# EAGLE library part NRF24L01 (library 00_custom)
2.4GHz Radio Module
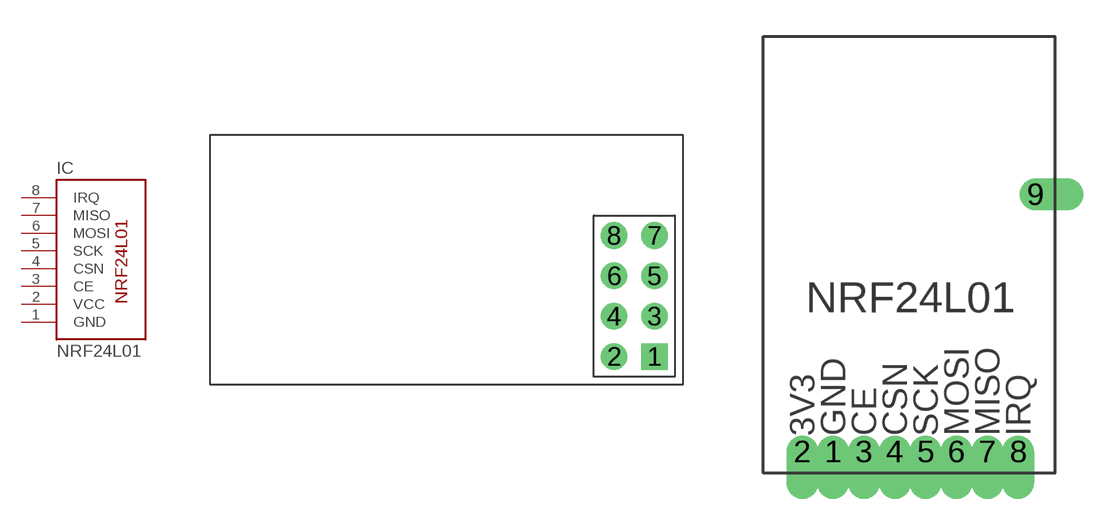
[diagram p8: symbol with the pads of NRF24L01; footprints NRF24L01, NRF24L01_SMD]

Designator prefix IC

## NRF24L01  [NRF24L01]
1  GND
2  VCC
3  CE
4  CSN
5  SCK
6  MOSI
7  MISO
8  IRQ

## NRF24L01SMD  [NRF24L01_SMD]
Pads as for NRF24L01

## Footprint NRF24L01 (pad centres in mm)
drill 1.016 pad 1.676 square: 1 -1.27,1.27
drill 1.016 pad 1.676: 2 -3.81,1.27; 3 -1.27,3.81; 4 -3.81,3.81; 5 -1.27,6.35; 6 -3.81,6.35; 7 -1.27,8.89; 8 -3.81,8.89

## Footprint NRF24L01_SMD (pad centres in mm)
drill 0.8 pad 1.016 offset: 1 1.27,0; 2 0,0; 3 2.54,0; 4 3.81,0; 5 5.08,0; 6 6.35,0; 7 7.62,0; 8 8.89,0; 9 9.6,10.6